# EAGLE library part EP8212 (library atari)
Delay Line
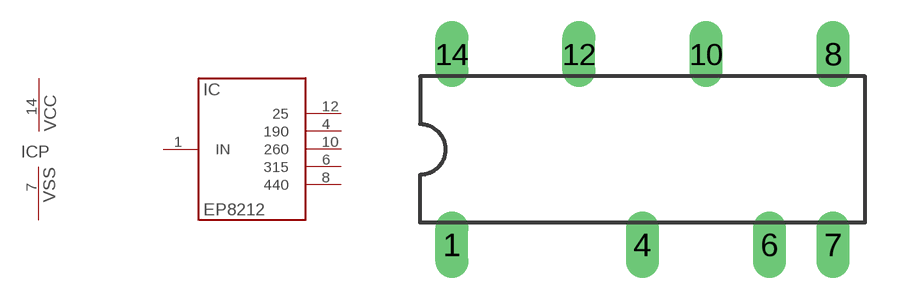
[diagram p0: symbol with the pads of DIL14/8; footprint DIL14/8]

Designator prefix IC; gates =EP8212 P=VCCVSS

## EP8212  [DIL14/8]
1  :IN  in
4  :190  out
6  :315  out
7  P:VSS  pwr
8  :440  out
10  :260  out
12  :25  out
14  P:VCC  pwr

## Footprint DIL14/8 (pad centres in mm)
drill 0.813 long: 1 -7.62,-3.81; 4 0,-3.81; 6 5.08,-3.81; 7 7.62,-3.81; 8 7.62,3.81; 10 2.54,3.81; 12 -2.54,3.81; 14 -7.62,3.81